# Altium footprint library Header.PcbLib: 3 footprints
Each footprint in its own frame and in the unit in brackets; x right, y up, seen from the top. Pads: shape width x height; smd on the part's side, far side on the other; paste and mask are expansions set on the pad; w line width, h text height; cw(c..) or ccw(c..) is an arc to the next point about the centre after c.
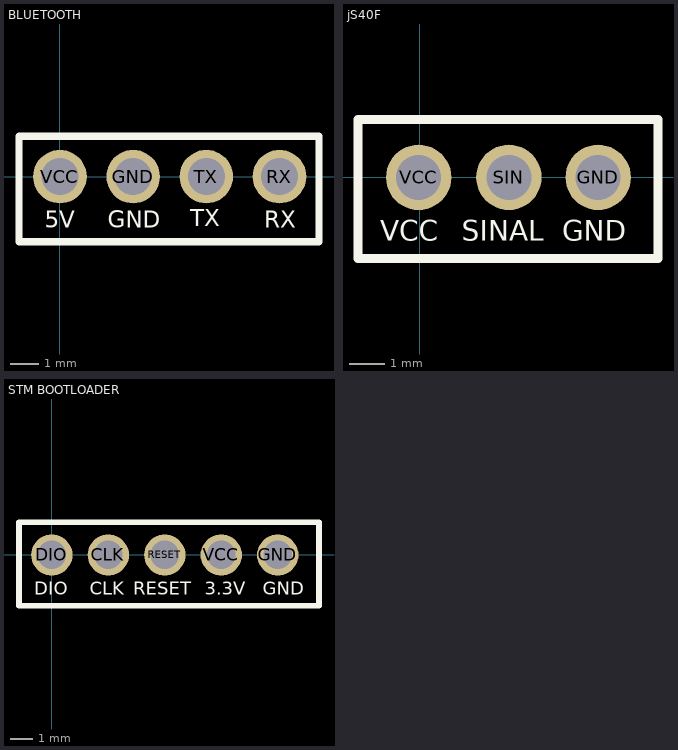
[diagram p0: the footprints below, top view; thin cyan lines are the x and y axes]

## BLUETOOTH [mm]
pads (4):
  round 1.86 hole 1.28: GND(2.54,0) RX(7.62,0) TX(5.08,0) VCC(0,0)
Top Overlay:
  lines w0.254: -1.422,-2.261 -1.422,1.397 8.992,1.397 8.992,-2.261 -1.422,-2.261
  text "5V" at -0.533,-1.961 h1
  text "RX" at 7.087,-1.961 h1
  text "TX" at 4.521,-1.91 h1
  text "GND" at 1.651,-1.972 h1
3D body "User Library-ZL262-4SG.step": height 8.4, standoff -3.15, extent -1.295,-1.255 8.865,1.245
3D body "User Library-HC-06.step": height 46, standoff 3.25, extent -3.672,-0.434 11.328,5.666

## jS40F [mm]
pads (3):
  round 1.86 hole 1.28: GND(5.08,0) SIN(2.54,0) VCC(-0.025,0)
Top Overlay:
  lines w0.254: -1.753,-2.311 6.782,-2.311 6.782,1.651 -1.753,1.651 -1.753,-2.311
  text "GND" at 4.064,-2.007 h1
  text "SINAL" at 1.194,-2.007 h1
  text "VCC" at -1.118,-2.007 h1
3D body "User Library-zl262-3s_p2-54_l8-12_w2-54_h8-5.STEP": height 8.5, standoff -3, extent -1.571,-1.092 6.549,1.448

## STM BOOTLOADER [mm]
pads (5):
  round 1.86 hole 1.28: CLK(2.54,0) DIO(0,0) GND(10.16,0) RESET(5.08,0) VCC(7.62,0)
Top Overlay:
  lines w0.254: -1.473,-2.286 12.014,-2.286 12.014,1.473 -1.473,1.473 -1.473,-2.286
  text "DIO" at -0.787,-1.997 h1
  text "GND" at 9.474,-1.992 h1
  text "3.3V" at 6.883,-1.992 h1
  text "RESET" at 3.658,-1.997 h1
  text "CLK" at 1.702,-1.997 h1
3D body "User Library-DS1023-1x5S21.step": height 8.5, standoff -3, extent -1.317,-1.194 11.883,1.346